# Altium footprint library Interruptores.PcbLib: 2 footprints
Each footprint in its own frame and in the unit in brackets; x right, y up, seen from the top. Pads: shape width x height; smd on the part's side, far side on the other; paste and mask are expansions set on the pad; w line width, h text height; cw(c..) or ccw(c..) is an arc to the next point about the centre after c.
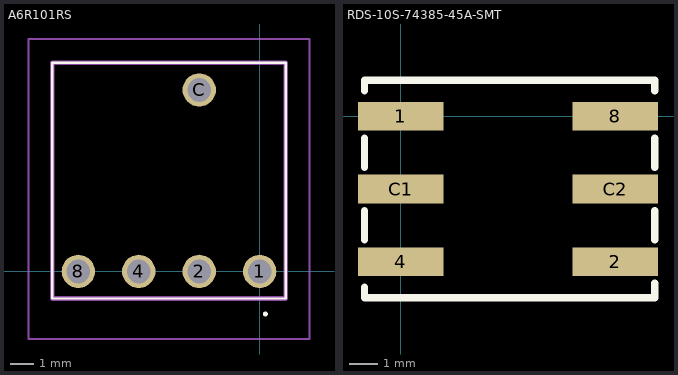
[diagram p0: the footprints below, top view; thin cyan lines are the x and y axes]

## A6R101RS [mm]
pads (5):
  round 1.4 hole 1: 1(0,0) 2(-2.54,0) 4(-5.08,0) 8(-7.62,0) C(-2.54,7.62)
Top Overlay:
  lines w0.1: -8.71,-1.14 1.09,-1.14 1.09,8.76 -8.71,8.76 -8.71,-1.14 ; 0.19,-1.79 ccw(c0.24,-1.79) 0.29,-1.79 ccw(c0.24,-1.79) 0.19,-1.79
Mechanical 13:
  lines w0.2: -8.71,-1.14 1.09,-1.14 1.09,8.76 -8.71,8.76 -8.71,-1.14
Mechanical 15:
  lines w0.1: -9.71,-2.84 2.09,-2.84 2.09,9.76 -9.71,9.76 -9.71,-2.84
3D body "A6R-101RS.stp": height 11.9, standoff -5, extent -8.71,-1.14 1.09,8.76

## RDS-10S-74385-45A-SMT [mm] "cn vastago"
pads (6):
  rect 3x1 smd: 1(0,0) 2(7.5,-5.08) 4(0,-5.08) 8(7.5,0) C1(0,-2.54) C2(7.5,-2.54)
Top Overlay:
  lines w0.254: -1.27,-5.969 -1.27,-6.35 8.89,-6.35 8.89,-5.842 ; -1.27,-4.318 -1.27,-3.302 ; -1.27,-1.778 -1.27,-0.762 ; -1.27,0.889 -1.27,1.27 8.89,1.27 8.89,0.889 ; 8.89,-4.318 8.89,-3.302 ; 8.89,-1.778 8.89,-0.762
3D body "switch rotary RDS-10S-74385-45A-SMT.step": height 8.3, standoff -0.05, extent -0.94,-6.417 8.56,1.083